# Altium schematic symbol library GaN_Single_Bridge.SCHLIB: 30 symbols
Pins are listed as number, name and electrical type; pins without a type are passive.

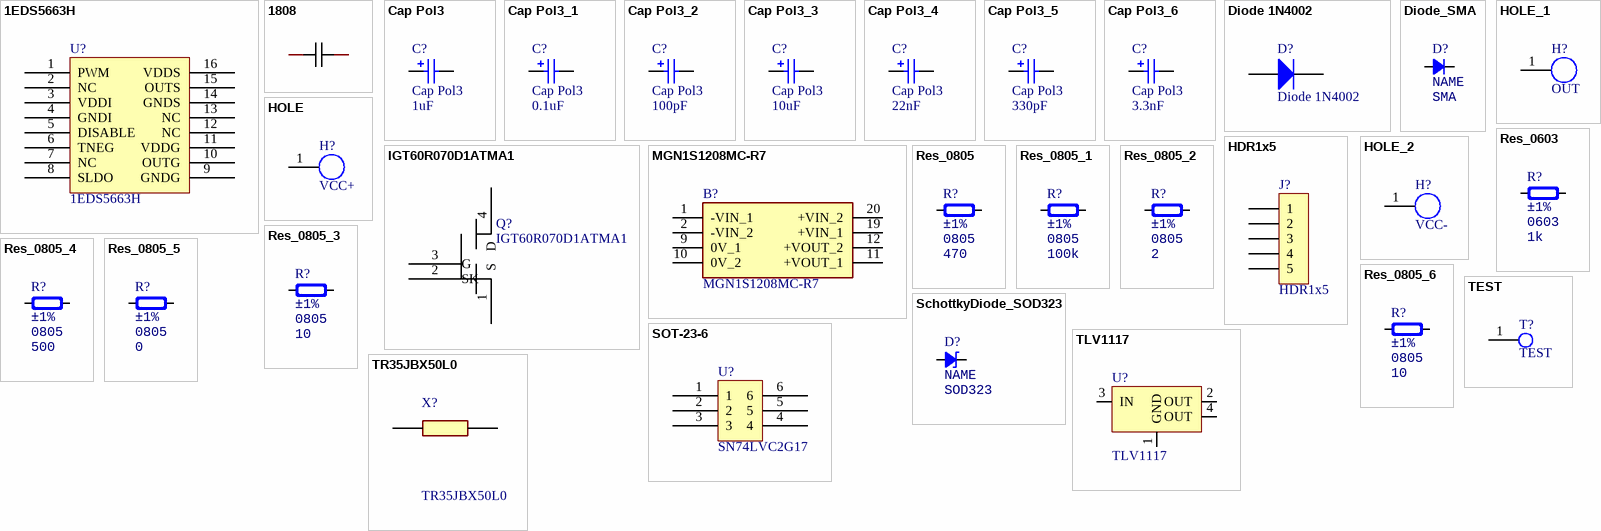
[diagram p0: symbols 1EDS5663H to TR35JBX50L0]

## 1EDS5663H
designator U?
footprint 1EDS5663H
pins: 1 PWM, 2 NC, 3 VDDI, 4 GNDI, 5 DISABLE, 6 TNEG, 7 NC, 8 SLDO, 9 GNDG, 10 OUTG, 11 VDDG, 12 NC, 13 NC, 14 GNDS, 15 OUTS, 16 VDDS

## 1808
designator C??, comment GR442QR73D102KW01L  (value not drawn)
Manufacturer: muRata(村田); Name: 1nF; Add into BOM: yes; Value: 1nF; Tolerance: ±10%; Voltage Rated: 2kV; Temperature Coefficient: X7R; Symbol: GR442QR73D102KW01L; Device: GR442QR73D102KW01L; LCSC Part Name: 1nF ±10% 2kV; Supplier Part: C76916; Manufacturer Part: GR442QR73D102KW01L; Supplier Footprint: 1808; JLCPCB Part Class: Extended Part; Datasheet: https://atta.szlcsc.com/upload/public/pdf/source/20180307/C76916_15204090833591407706.pdf; Supplier: LCSC; Convert to PCB: yes
footprint C1808
3D model C1808_L4.5-W2.0-H2.0
footprint 1808
pins: 1, 2

## Cap Pol3
designator C?  value 1uF
Polarized Capacitor (Surface Mount); Published: 8-Jun-2000; LatestRevisionDate: 29-May-2009; LatestRevisionNote: IPC-7351 Footprint Added.; PackageReference: C0805; Publisher: Altium Limited; PackageDescription: Chip Capacitor
footprint C0805 (Chip Capacitor, Body 2.0x1.3mm, IPC High Density)
footprint 1812 (Chip Capacitor, Body 4.5x3.2mm, IPC High Density)
footprint 1825 (Chip Capacitor, Body 4.5x6.4mm, IPC High Density)
footprint C2225 (Chip Capacitor, Body 5.7x6.4mm, IPC High Density)
footprint 2220 (Chip Capacitor, Body 5.7x5.0mm, IPC High Density)
simulation model CAP (Capacitor)
signal-integrity model Cap Pol
pins: 1, 2
1 alternate drawing of the same symbol

## Cap Pol3_1
designator C?, comment Cap Pol3  value 0.1uF
Polarized Capacitor (Surface Mount); Published: 8-Jun-2000; LatestRevisionDate: 29-May-2009; LatestRevisionNote: IPC-7351 Footprint Added.; PackageReference: C0805; Publisher: Altium Limited; PackageDescription: Chip Capacitor
footprint C0805 (Chip Capacitor, Body 2.0x1.3mm, IPC High Density)
footprint 1812 (Chip Capacitor, Body 4.5x3.2mm, IPC High Density)
footprint 1825 (Chip Capacitor, Body 4.5x6.4mm, IPC High Density)
footprint C2225 (Chip Capacitor, Body 5.7x6.4mm, IPC High Density)
footprint 2220 (Chip Capacitor, Body 5.7x5.0mm, IPC High Density)
simulation model CAP (Capacitor)
signal-integrity model Cap Pol
pins: 1, 2
1 alternate drawing of the same symbol

## Cap Pol3_2
designator C?, comment Cap Pol3  value 100pF
Polarized Capacitor (Surface Mount); Published: 8-Jun-2000; LatestRevisionDate: 29-May-2009; LatestRevisionNote: IPC-7351 Footprint Added.; PackageReference: C0805; Publisher: Altium Limited; PackageDescription: Chip Capacitor
footprint C0805 (Chip Capacitor, Body 2.0x1.3mm, IPC High Density)
footprint 1812 (Chip Capacitor, Body 4.5x3.2mm, IPC High Density)
footprint 1825 (Chip Capacitor, Body 4.5x6.4mm, IPC High Density)
footprint C2225 (Chip Capacitor, Body 5.7x6.4mm, IPC High Density)
footprint 2220 (Chip Capacitor, Body 5.7x5.0mm, IPC High Density)
simulation model CAP (Capacitor)
signal-integrity model Cap Pol
pins: 1, 2
1 alternate drawing of the same symbol

## Cap Pol3_3
designator C?, comment Cap Pol3  value 10uF
Polarized Capacitor (Surface Mount); Published: 8-Jun-2000; LatestRevisionDate: 29-May-2009; LatestRevisionNote: IPC-7351 Footprint Added.; PackageReference: C0805; Publisher: Altium Limited; PackageDescription: Chip Capacitor
footprint C0805 (Chip Capacitor, Body 2.0x1.3mm, IPC High Density)
footprint 1812 (Chip Capacitor, Body 4.5x3.2mm, IPC High Density)
footprint 1825 (Chip Capacitor, Body 4.5x6.4mm, IPC High Density)
footprint C2225 (Chip Capacitor, Body 5.7x6.4mm, IPC High Density)
footprint 2220 (Chip Capacitor, Body 5.7x5.0mm, IPC High Density)
simulation model CAP (Capacitor)
signal-integrity model Cap Pol
pins: 1, 2
1 alternate drawing of the same symbol

## Cap Pol3_4
designator C?, comment Cap Pol3  value 22nF
Polarized Capacitor (Surface Mount); Published: 8-Jun-2000; LatestRevisionDate: 29-May-2009; LatestRevisionNote: IPC-7351 Footprint Added.; PackageReference: C0805; Publisher: Altium Limited; PackageDescription: Chip Capacitor
footprint C0805 (Chip Capacitor, Body 2.0x1.3mm, IPC High Density)
footprint 1812 (Chip Capacitor, Body 4.5x3.2mm, IPC High Density)
footprint 1825 (Chip Capacitor, Body 4.5x6.4mm, IPC High Density)
footprint C2225 (Chip Capacitor, Body 5.7x6.4mm, IPC High Density)
footprint 2220 (Chip Capacitor, Body 5.7x5.0mm, IPC High Density)
simulation model CAP (Capacitor)
signal-integrity model Cap Pol
pins: 1, 2
1 alternate drawing of the same symbol

## Cap Pol3_5
designator C?, comment Cap Pol3  value 330pF
Polarized Capacitor (Surface Mount); Published: 8-Jun-2000; LatestRevisionDate: 29-May-2009; LatestRevisionNote: IPC-7351 Footprint Added.; PackageReference: C0805; Publisher: Altium Limited; PackageDescription: Chip Capacitor
footprint C0805 (Chip Capacitor, Body 2.0x1.3mm, IPC High Density)
footprint 1812 (Chip Capacitor, Body 4.5x3.2mm, IPC High Density)
footprint 1825 (Chip Capacitor, Body 4.5x6.4mm, IPC High Density)
footprint C2225 (Chip Capacitor, Body 5.7x6.4mm, IPC High Density)
footprint 2220 (Chip Capacitor, Body 5.7x5.0mm, IPC High Density)
simulation model CAP (Capacitor)
signal-integrity model Cap Pol
pins: 1, 2
1 alternate drawing of the same symbol

## Cap Pol3_6
designator C?, comment Cap Pol3  value 3.3nF
Polarized Capacitor (Surface Mount); Published: 8-Jun-2000; LatestRevisionDate: 29-May-2009; LatestRevisionNote: IPC-7351 Footprint Added.; PackageReference: C0805; Publisher: Altium Limited; PackageDescription: Chip Capacitor
footprint C0805 (Chip Capacitor, Body 2.0x1.3mm, IPC High Density)
footprint 1812 (Chip Capacitor, Body 4.5x3.2mm, IPC High Density)
footprint 1825 (Chip Capacitor, Body 4.5x6.4mm, IPC High Density)
footprint C2225 (Chip Capacitor, Body 5.7x6.4mm, IPC High Density)
footprint 2220 (Chip Capacitor, Body 5.7x5.0mm, IPC High Density)
simulation model CAP (Capacitor)
signal-integrity model Cap Pol
pins: 1, 2
1 alternate drawing of the same symbol

## Diode 1N4002
designator D?
1 Amp General Purpose Rectifier; Published: 8-Jun-2000; LatestRevisionDate: 17-Jul-2002; LatestRevisionNote: Re-released for DXP Platform.; DatasheetVersion: 1998; PackageVersion: Aug-1999; PackageReference: DO-41; Publisher: Altium Limited; PackageDescription: Diode, Axial; Body 5.2 x 2.7 mm (LxDia. max), Lead Dia. 0.86 mm (max); Code_JEDEC: DO-204-AL; ComponentLink1Description: Manufacturer Link; ComponentLink1URL: http://www.fairchildsemi.com/; ComponentLink2Description: Datasheet; ComponentLink2URL: http://www.fairchildsemi.com/ds/1N%2F1N4001.pdf
footprint DO-41 (Diode, Axial; Body 5.2 x 2.7 mm (LxDia. max), Lead Dia. 0.86 mm (max))
simulation model 1N4002 (DIODE)
signal-integrity model 1N4002
pins: 1 A, 2 K

## Diode_SMA
designator D?, comment Type: SMA  (hidden comment: NAME)
Diode; Manufacturer: *; Specification: *; Note: *; Value: NAME
footprint DO-214AC (SMA)
pins: 1 A, 2 K

## HDR1x5
designator J?
Connector
footprint PIN-5-2.54-1.0 (Pin Header)
footprint PIN-5-2.0-0.8 (Pin Header)
footprint PH-5 (Pin Header)
footprint XH-5 (Pin Header)
footprint 5.08-5 (Pin Header)
footprint PH-5-SIDE (Pin Header, Side entry)
footprint PH-5-SIDE-SMD (Pin Header, Side entry, SMD)
footprint XH-5-SIDE (Pin Header, Side entry)
pins: 1, 2, 3, 4, 5

## HOLE
designator H?, comment VCC+
footprint HOLE
pins: 1

## HOLE_1
designator H?, comment OUT
footprint HOLE
pins: 1

## HOLE_2
designator H?, comment VCC-
footprint HOLE
pins: 1

## IGT60R070D1ATMA1
designator Q?
footprint IGT60R070D1ATMA1
pins: 1 S, 2 SK, 3 G, 4 D

## MGN1S1208MC-R7
designator B?
Isolated Module DC DC Converter 1 Output 8V 125mA 10.8V - 13.2V Input; Manufacturer_Name: Murata Electronics; Geometry.Height: 4.7mm; Manufacturer_Part_Number: MGN1S1208MC-R7; Mouser Part Number: *; Mouser Price/Stock: *; Arrow Part Number: *; Arrow Price/Stock: *; Datasheet Link: https://www.murata.com/products/productdata/8819021971486/KDC-MGN1.pdf
footprint MGN1S1208MCR7
footprint MGN1S1208MCR7
pins: 1 -VIN_1, 2 -VIN_2, 9 0V_1, 10 0V_2, 11 +VOUT_1, 12 +VOUT_2, 19 +VIN_1, 20 +VIN_2

## Res_0603
designator R?, comment value 1k  Note: ±1%  Type: 0603  (hidden comment: R0603)
Resistor; Manufacturer: *; Specification: ±1%
footprint RES_0603
pins: 1, 2

## Res_0805
designator R?, comment value 470  Note: ±1%  Type: 0805  (hidden comment: R0805)
Resistor; Manufacturer: *; Specification: ±1%
footprint RES_0805
pins: 1, 2

## Res_0805_1
designator R?, comment value 100k  Note: ±1%  Type: 0805  (hidden comment: R0805)
Resistor; Manufacturer: *; Specification: ±1%
footprint RES_0805
pins: 1, 2

## Res_0805_2
designator R?, comment value 2  Note: ±1%  Type: 0805  (hidden comment: R0805)
Resistor; Manufacturer: *; Specification: ±1%
footprint RES_0805
pins: 1, 2

## Res_0805_3
designator R?, comment value 10  Note: ±1%  Type: 0805  (hidden comment: R0805)
Resistor; Manufacturer: *; Specification: ±1%
footprint RES_0805
pins: 1, 2

## Res_0805_4
designator R?, comment value 500  Note: ±1%  Type: 0805  (hidden comment: R0805)
Resistor; Manufacturer: *; Specification: ±1%
footprint RES_0805
pins: 1, 2

## Res_0805_5
designator R?, comment value 0  Note: ±1%  Type: 0805  (hidden comment: R0805)
Resistor; Manufacturer: *; Specification: ±1%
footprint RES_0805
pins: 1, 2

## Res_0805_6
designator R?, comment value 10  Note: ±1%  Type: 0805  (hidden comment: R0805)
Resistor_uncertain; Manufacturer: *; Specification: ±1%
footprint RES_0805
pins: 1, 2

## SchottkyDiode_SOD323
designator D?, comment Type: SOD323  (hidden comment: NAME)
Schottky Diode; Manufacturer: *; Specification: *; Note: *; Value: NAME
footprint SOD-323
pins: 1 A, 2 K

## SOT-23-6
designator U?, comment SN74LVC2G17
footprint SOT-23-6 (Small Outline Transistor, 6 Pins, Pin Pitch  0.95mm)
pins: 1, 2, 3, 4, 5, 6

## TEST
designator T?
footprint TESTPOINT
pins: 1

## TLV1117
designator U?
Power; Type: *
footprint SOT223-3
pins: 1 GND (power), 2 OUT (power), 3 IN (power), 4 OUT (power)

## TR35JBX50L0
designator X?
RES, TO-220, 0.05 ohm, 5%, 35W; Manufacturer_Name: Stackpole Electronics, Inc.; Geometry.Height: 15.3mm; Manufacturer_Part_Number: TR35JBX50L0; Mouser Part Number: *; Mouser Price/Stock: *; Arrow Part Number: *; Arrow Price/Stock: *; Datasheet Link: https://www.seielect.com/Catalog/SEI-TR.pdf
footprint TR35JBX50L0
pins: 1, 2